# Altium footprint library to-263.PcbLib: 1 footprints
Each footprint in its own frame and in the unit in brackets; x right, y up, seen from the top. Pads: shape width x height; smd on the part's side, far side on the other; paste and mask are expansions set on the pad; w line width, h text height; cw(c..) or ccw(c..) is an arc to the next point about the centre after c.
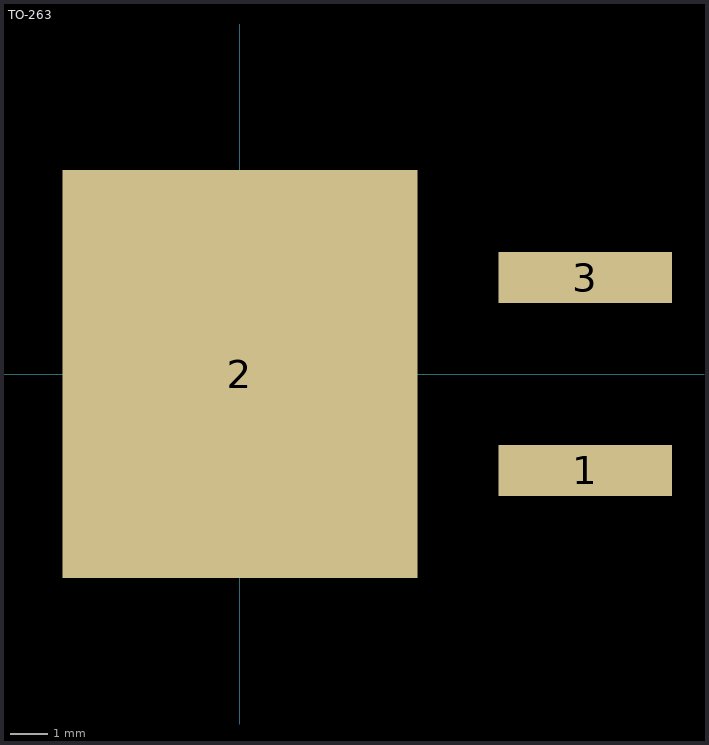
[diagram p0: the footprint, top view; thin cyan lines are the x and y axes]

## TO-263 [mm]
pads (3):
  rect 4.6x1.35 smd: 1(9.15,-2.55) 3(9.15,2.55)
  rect 9.4x10.8 smd: 2(0,0)